# Altium schematic symbol library SCH - ARM CORTEX - NXP LPC54S016JBD100.SchLib: 1 symbol
Pins are listed as number, name and electrical type; pins without a type are passive.

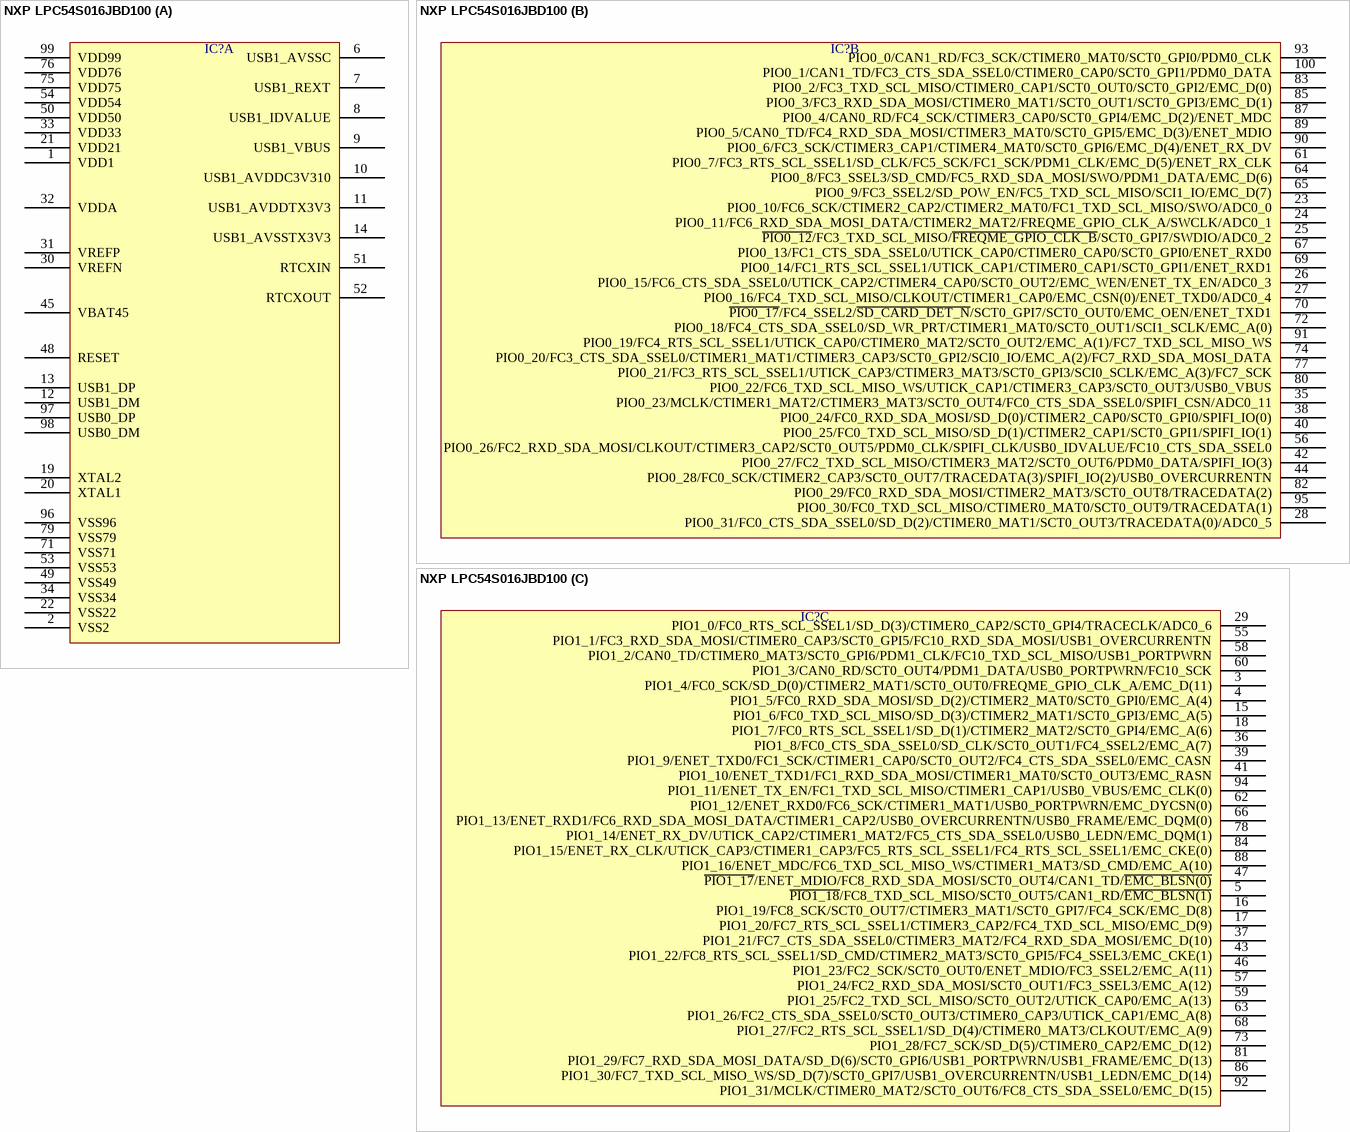
[diagram p0: symbol NXP LPC54S016JBD100]

## NXP LPC54S016JBD100
designator IC?  (value not drawn)
part A pins: 1 VDD1, 2 VSS2, 6 USB1_AVSSC, 7 USB1_REXT, 8 USB1_IDVALUE, 9 USB1_VBUS, 10 USB1_AVDDC3V310, 11 USB1_AVDDTX3V3, 12 USB1_DM, 13 USB1_DP, 14 USB1_AVSSTX3V3, 19 XTAL2, 20 XTAL1, 21 VDD21, 22 VSS22, 30 VREFN, 31 VREFP, 32 VDDA, 33 VDD33, 34 VSS34, 45 VBAT45, 48 RESET, 49 VSS49, 50 VDD50, 51 RTCXIN, 52 RTCXOUT, 53 VSS53, 54 VDD54, 71 VSS71, 75 VDD75, 76 VDD76, 79 VSS79, 96 VSS96, 97 USB0_DP, 98 USB0_DM, 99 VDD99
part B pins: 23 PIO0_10/FC6_SCK/CTIMER2_CAP2/CTIMER2_MAT0/FC1_TXD_SCL_MISO/SWO/ADC0_0, 24 PIO0_11/FC6_RXD_SDA_MOSI_DATA/CTIMER2_MAT2/FREQME_GPIO_CLK_A/SWCLK/ADC0_1, 25 ~{PIO0_12}/FC3_TXD_SCL_MISO/~{FREQME_GPIO_CLK_B}/SCT0_GPI7/SWDIO/ADC0_2, 26 PIO0_15/FC6_CTS_SDA_SSEL0/UTICK_CAP2/CTIMER4_CAP0/SCT0_OUT2/EMC_WEN/ENET_TX_EN/ADC0_3, 27 PIO0_16/FC4_TXD_SCL_MISO/CLKOUT/CTIMER1_CAP0/EMC_CSN(0)/ENET_TXD0/ADC0_4, 28 PIO0_31/FC0_CTS_SDA_SSEL0/SD_D(2)/CTIMER0_MAT1/SCT0_OUT3/TRACEDATA(0)/ADC0_5, 35 PIO0_23/MCLK/CTIMER1_MAT2/CTIMER3_MAT3/SCT0_OUT4/FC0_CTS_SDA_SSEL0/SPIFI_CSN/ADC0_11, 38 PIO0_24/FC0_RXD_SDA_MOSI/SD_D(0)/CTIMER2_CAP0/SCT0_GPI0/SPIFI_IO(0), 40 PIO0_25/FC0_TXD_SCL_MISO/SD_D(1)/CTIMER2_CAP1/SCT0_GPI1/SPIFI_IO(1), 42 PIO0_27/FC2_TXD_SCL_MISO/CTIMER3_MAT2/SCT0_OUT6/PDM0_DATA/SPIFI_IO(3), 44 PIO0_28/FC0_SCK/CTIMER2_CAP3/SCT0_OUT7/TRACEDATA(3)/SPIFI_IO(2)/USB0_OVERCURRENTN, 56 PIO0_26/FC2_RXD_SDA_MOSI/CLKOUT/CTIMER3_CAP2/SCT0_OUT5/PDM0_CLK/SPIFI_CLK/USB0_IDVALUE/FC10_CTS_SDA_SSEL0, 61 PIO0_7/FC3_RTS_SCL_SSEL1/SD_CLK/FC5_SCK/FC1_SCK/PDM1_CLK/EMC_D(5)/ENET_RX_CLK, 64 PIO0_8/FC3_SSEL3/SD_CMD/FC5_RXD_SDA_MOSI/SWO/PDM1_DATA/EMC_D(6), 65 PIO0_9/FC3_SSEL2/SD_POW_EN/FC5_TXD_SCL_MISO/SCI1_IO/EMC_D(7), 67 PIO0_13/FC1_CTS_SDA_SSEL0/UTICK_CAP0/CTIMER0_CAP0/SCT0_GPI0/ENET_RXD0, 69 PIO0_14/FC1_RTS_SCL_SSEL1/UTICK_CAP1/CTIMER0_CAP1/SCT0_GPI1/ENET_RXD1, 70 ~{PIO0_17}/FC4_SSEL2/~{SD_CARD_DET_N}/SCT0_GPI7/SCT0_OUT0/EMC_OEN/ENET_TXD1, 72 PIO0_18/FC4_CTS_SDA_SSEL0/SD_WR_PRT/CTIMER1_MAT0/SCT0_OUT1/SCI1_SCLK/EMC_A(0), 74 PIO0_20/FC3_CTS_SDA_SSEL0/CTIMER1_MAT1/CTIMER3_CAP3/SCT0_GPI2/SCI0_IO/EMC_A(2)/FC7_RXD_SDA_MOSI_DATA, 77 PIO0_21/FC3_RTS_SCL_SSEL1/UTICK_CAP3/CTIMER3_MAT3/SCT0_GPI3/SCI0_SCLK/EMC_A(3)/FC7_SCK, 80 PIO0_22/FC6_TXD_SCL_MISO_WS/UTICK_CAP1/CTIMER3_CAP3/SCT0_OUT3/USB0_VBUS, 82 PIO0_29/FC0_RXD_SDA_MOSI/CTIMER2_MAT3/SCT0_OUT8/TRACEDATA(2), 83 PIO0_2/FC3_TXD_SCL_MISO/CTIMER0_CAP1/SCT0_OUT0/SCT0_GPI2/EMC_D(0), 85 PIO0_3/FC3_RXD_SDA_MOSI/CTIMER0_MAT1/SCT0_OUT1/SCT0_GPI3/EMC_D(1), 87 PIO0_4/CAN0_RD/FC4_SCK/CTIMER3_CAP0/SCT0_GPI4/EMC_D(2)/ENET_MDC, 89 PIO0_5/CAN0_TD/FC4_RXD_SDA_MOSI/CTIMER3_MAT0/SCT0_GPI5/EMC_D(3)/ENET_MDIO, 90 PIO0_6/FC3_SCK/CTIMER3_CAP1/CTIMER4_MAT0/SCT0_GPI6/EMC_D(4)/ENET_RX_DV, 91 PIO0_19/FC4_RTS_SCL_SSEL1/UTICK_CAP0/CTIMER0_MAT2/SCT0_OUT2/EMC_A(1)/FC7_TXD_SCL_MISO_WS, 93 PIO0_0/CAN1_RD/FC3_SCK/CTIMER0_MAT0/SCT0_GPI0/PDM0_CLK, 95 PIO0_30/FC0_TXD_SCL_MISO/CTIMER0_MAT0/SCT0_OUT9/TRACEDATA(1), 100 PIO0_1/CAN1_TD/FC3_CTS_SDA_SSEL0/CTIMER0_CAP0/SCT0_GPI1/PDM0_DATA
part C pins: 3 PIO1_4/FC0_SCK/SD_D(0)/CTIMER2_MAT1/SCT0_OUT0/FREQME_GPIO_CLK_A/EMC_D(11), 4 PIO1_5/FC0_RXD_SDA_MOSI/SD_D(2)/CTIMER2_MAT0/SCT0_GPI0/EMC_A(4), 5 ~{PIO1_18}/FC8_TXD_SCL_MISO/SCT0_OUT5/CAN1_RD/~{EMC_BLSN(1)}, 15 PIO1_6/FC0_TXD_SCL_MISO/SD_D(3)/CTIMER2_MAT1/SCT0_GPI3/EMC_A(5), 16 PIO1_19/FC8_SCK/SCT0_OUT7/CTIMER3_MAT1/SCT0_GPI7/FC4_SCK/EMC_D(8), 17 PIO1_20/FC7_RTS_SCL_SSEL1/CTIMER3_CAP2/FC4_TXD_SCL_MISO/EMC_D(9), 18 PIO1_7/FC0_RTS_SCL_SSEL1/SD_D(1)/CTIMER2_MAT2/SCT0_GPI4/EMC_A(6), 29 PIO1_0/FC0_RTS_SCL_SSEL1/SD_D(3)/CTIMER0_CAP2/SCT0_GPI4/TRACECLK/ADC0_6, 36 PIO1_8/FC0_CTS_SDA_SSEL0/SD_CLK/SCT0_OUT1/FC4_SSEL2/EMC_A(7), 37 PIO1_21/FC7_CTS_SDA_SSEL0/CTIMER3_MAT2/FC4_RXD_SDA_MOSI/EMC_D(10), 39 PIO1_9/ENET_TXD0/FC1_SCK/CTIMER1_CAP0/SCT0_OUT2/FC4_CTS_SDA_SSEL0/EMC_CASN, 41 PIO1_10/ENET_TXD1/FC1_RXD_SDA_MOSI/CTIMER1_MAT0/SCT0_OUT3/EMC_RASN, 43 PIO1_22/FC8_RTS_SCL_SSEL1/SD_CMD/CTIMER2_MAT3/SCT0_GPI5/FC4_SSEL3/EMC_CKE(1), 46 PIO1_23/FC2_SCK/SCT0_OUT0/ENET_MDIO/FC3_SSEL2/EMC_A(11), 47 ~{PIO1_17}/ENET_MDIO/FC8_RXD_SDA_MOSI/SCT0_OUT4/CAN1_TD/~{EMC_BLSN(0)}, 55 PIO1_1/FC3_RXD_SDA_MOSI/CTIMER0_CAP3/SCT0_GPI5/FC10_RXD_SDA_MOSI/USB1_OVERCURRENTN, 57 PIO1_24/FC2_RXD_SDA_MOSI/SCT0_OUT1/FC3_SSEL3/EMC_A(12), 58 PIO1_2/CAN0_TD/CTIMER0_MAT3/SCT0_GPI6/PDM1_CLK/FC10_TXD_SCL_MISO/USB1_PORTPWRN, 59 PIO1_25/FC2_TXD_SCL_MISO/SCT0_OUT2/UTICK_CAP0/EMC_A(13), 60 PIO1_3/CAN0_RD/SCT0_OUT4/PDM1_DATA/USB0_PORTPWRN/FC10_SCK, 62 PIO1_12/ENET_RXD0/FC6_SCK/CTIMER1_MAT1/USB0_PORTPWRN/EMC_DYCSN(0), 63 PIO1_26/FC2_CTS_SDA_SSEL0/SCT0_OUT3/CTIMER0_CAP3/UTICK_CAP1/EMC_A(8), 66 PIO1_13/ENET_RXD1/FC6_RXD_SDA_MOSI_DATA/CTIMER1_CAP2/USB0_OVERCURRENTN/USB0_FRAME/EMC_DQM(0), 68 PIO1_27/FC2_RTS_SCL_SSEL1/SD_D(4)/CTIMER0_MAT3/CLKOUT/EMC_A(9), 73 PIO1_28/FC7_SCK/SD_D(5)/CTIMER0_CAP2/EMC_D(12), 78 PIO1_14/ENET_RX_DV/UTICK_CAP2/CTIMER1_MAT2/FC5_CTS_SDA_SSEL0/USB0_LEDN/EMC_DQM(1), 81 PIO1_29/FC7_RXD_SDA_MOSI_DATA/SD_D(6)/SCT0_GPI6/USB1_PORTPWRN/USB1_FRAME/EMC_D(13), 84 PIO1_15/ENET_RX_CLK/UTICK_CAP3/CTIMER1_CAP3/FC5_RTS_SCL_SSEL1/FC4_RTS_SCL_SSEL1/EMC_CKE(0), 86 PIO1_30/FC7_TXD_SCL_MISO_WS/SD_D(7)/SCT0_GPI7/USB1_OVERCURRENTN/USB1_LEDN/EMC_D(14), 88 PIO1_16/ENET_MDC/FC6_TXD_SCL_MISO_WS/CTIMER1_MAT3/SD_CMD/EMC_A(10), 92 PIO1_31/MCLK/CTIMER0_MAT2/SCT0_OUT6/FC8_CTS_SDA_SSEL0/EMC_D(15), 94 PIO1_11/ENET_TX_EN/FC1_TXD_SCL_MISO/CTIMER1_CAP1/USB0_VBUS/EMC_CLK(0)